# Altium footprint library PowerBlock.PcbLib: 2 footprints
Each footprint in its own frame and in the unit in brackets; x right, y up, seen from the top. Pads: shape width x height; smd on the part's side, far side on the other; paste and mask are expansions set on the pad; w line width, h text height; cw(c..) or ccw(c..) is an arc to the next point about the centre after c.
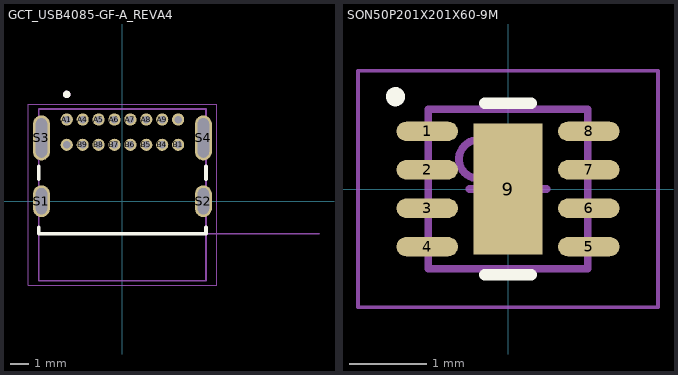
[diagram p0: the footprints below, top view; thin cyan lines are the x and y axes]

## GCT_USB4085-GF-A_REVA4 [mm]
height 3.46
pads (20):
  round 0.65 hole 0.4: A1(-2.975,4.36) A4(-2.125,4.36) A5(-1.275,4.36) A6(-0.425,4.36) A7(0.425,4.36) A8(1.275,4.36) A9(2.125,4.36) A12(2.975,4.36) B1(2.975,3.01) B4(2.125,3.01) B5(1.275,3.01) B6(0.425,3.01) B7(-0.425,3.01) B8(-1.275,3.01) B9(-2.125,3.01) B12(-2.975,3.01)
  oval 0.9x1.7 hole 0.6 slot 1.4 at 90 deg: S1(-4.325,0) S2(4.325,0)
  oval 0.9x2.4 hole 0.6 slot 2.1 at 90 deg: S3(-4.325,3.38) S4(4.325,3.38)
Top Overlay:
  circle w0.2: c-2.975,5.7 r0.1
  lines w0.2: -4.47,-1.39 -4.47,-1.74 4.47,-1.74 4.47,-1.39 ; -4.47,1.17 -4.47,1.85 ; 4.47,1.17 4.47,1.85
Top 3D Body:
  circle w0.2: c-2.975,5.7 r0.1
  lines w0.1: 10.5,-1.74 -4.47,-1.74 ; -4.47,-1.74 -4.47,-4.25 4.47,-4.25 4.47,4.92 -4.47,4.92 -4.47,-1.74
  text "PCB EDGE" at 5.315,-1.57 h0.81
Mechanical 15:
  lines w0.05: -5.025,-4.5 5.025,-4.5 5.025,5.17 -5.025,5.17 -5.025,-4.5
3D body "step_temp.STEP": height 3.46, standoff -2.1, extent -4.47,-4.25 4.47,4.92

## SON50P201X201X60-9M [mm] "SON, 8-Leads, Body 2.01x2.01mm, Pitch 0.50mm, Thermal Pad 1.70x0.90mm, IPC Low Density"
height 0.6
pads (9):
  oval 0.8x0.25 smd: 1(-1.05,0.75) 2(-1.05,0.25) 3(-1.05,-0.25) 4(-1.05,-0.75) 5(1.05,-0.75) 6(1.05,-0.25) 7(1.05,0.25) 8(1.05,0.75)
  rect 0.9x1.7 smd paste-0.211: 9(0,0)
Top Overlay:
  circle w0.125: c-1.463,1.2 r0.062
  lines w0.15: -0.3,-1.112 0.3,-1.112 ; -0.3,1.113 0.3,1.113
Mechanical 3:
  lines w0.05: -1.95,-1.538 -1.95,1.538 1.95,1.538 1.95,-1.538 -1.95,-1.538
Top Assembly:
  circle w0.1: c-0.387,0.387 r0.25
  lines w0.1: -1.038,-1.037 -1.038,1.038 1.037,1.038 1.037,-1.037 -1.038,-1.037
Top Designator:
  text ".Designator" at 0,0.188 h1
Top Component Center:
  lines w0.1: -0.5,0 0.5,0 ; 0,-0.5 0,0.5
3D body: height 0.6, standoff 0, extent -1.006,-1.006 1.006,1.006